# Altium integrated library PV36W204A01B00.IntLib: 1 symbol
Pins are listed as number, name and electrical type; pins without a type are passive.

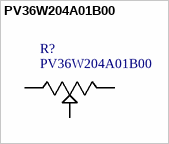
[diagram p0: symbol PV36W204A01B00]

## PV36W204A01B00
designator R?
ohm, Passive Components, Resistors, trimmer, pot, Potentiometers, Potentiometers and Accessories, smd; MF: Murata; SnapEDA_Link: https://www.snapeda.com/parts/PV36W204A01B00/Murata/view-part/350473/?ref=snap; Package: SIP-13 Murata; MP: PV36W204A01B00; Availability: Unavailable; Price: None; Value: *
footprint *TRIM_PV36W204A01B00
pins: 1, 2, 3